# Altium footprint library SP3003-02XTG.PcbLib: 3 footprints
Each footprint in its own frame and in the unit in brackets; x right, y up, seen from the top. Pads: shape width x height; smd on the part's side, far side on the other; paste and mask are expansions set on the pad; w line width, h text height; cw(c..) or ccw(c..) is an arc to the next point about the centre after c.
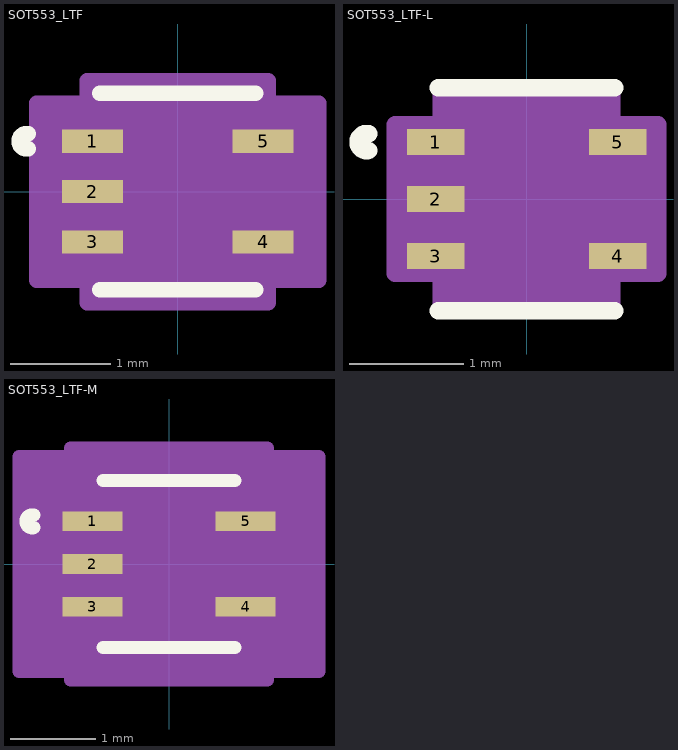
[diagram p0: the footprints below, top view; thin cyan lines are the x and y axes]

## SOT553_LTF [mm]
pads (5):
  rect 0.605x0.229 smd paste+0 mask+0: 1(-0.848,0.5) 2(-0.848,0) 3(-0.848,-0.5) 4(0.848,-0.5) 5(0.848,0.5)
Top Overlay:
  lines w0.152: -1.484,0.426 cw(c-1.503,0.5) -1.484,0.574 ; -0.775,-0.978 0.775,-0.978 ; -0.775,0.978 0.775,0.978
Mechanical 13:
  circle w0: c-0.546,0.5 r0.076
  lines w0: -0.305,0.851 ccw(c0,0.851) 0.305,0.851
  lines w0.025: -0.648,-0.851 0.648,-0.851 0.648,0.851 -0.648,0.851 -0.648,-0.851
Mechanical 15:
  region: 0.902,-1.105 -0.902,-1.105 -0.902,-0.881 -1.405,-0.881 -1.405,0.881 -0.902,0.881 -0.902,1.105 0.902,1.105 0.902,0.881 1.405,0.881 1.405,-0.881 0.902,-0.881
  lines w0.152: -1.405,-0.881 -0.902,-0.881 -0.902,-1.105 0.902,-1.105 0.902,-0.881 1.405,-0.881 1.405,0.881 0.902,0.881 0.902,1.105 -0.902,1.105 -0.902,0.881 -1.405,0.881 -1.405,-0.881
3D body "SOT553_LTF.step": height 0.61, standoff 0, extent -0.851,-0.851 0.851,0.851

## SOT553_LTF-L [mm]
pads (5):
  rect 0.505x0.229 smd paste+0 mask+0: 1(-0.798,0.5) 2(-0.798,0) 3(-0.798,-0.5) 4(0.798,-0.5) 5(0.798,0.5)
Top Overlay:
  lines w0.152: -1.384,0.426 cw(c-1.403,0.5) -1.384,0.574 ; -0.775,-0.978 0.775,-0.978 ; -0.775,0.978 0.775,0.978
Mechanical 13:
  circle w0: c-0.546,0.5 r0.076
  lines w0: -0.305,0.851 ccw(c0,0.851) 0.305,0.851
  lines w0.025: -0.648,-0.851 0.648,-0.851 0.648,0.851 -0.648,0.851 -0.648,-0.851
Mechanical 15:
  region: 0.749,-0.953 -0.749,-0.953 -0.749,-0.653 -1.152,-0.653 -1.152,0.653 -0.749,0.653 -0.749,0.953 0.749,0.953 0.749,0.652 1.152,0.652 1.152,-0.652 0.749,-0.652
  lines w0.152: -1.152,-0.653 -0.749,-0.653 -0.749,-0.953 0.749,-0.953 0.749,-0.652 1.152,-0.652 1.152,0.652 0.749,0.652 0.749,0.953 -0.749,0.953 -0.749,0.653 -1.152,0.653 -1.152,-0.653
3D body "SOT553_LTF.step": height 0.61, standoff 0, extent -0.851,-0.851 0.851,0.851

## SOT553_LTF-M [mm]
pads (5):
  rect 0.705x0.229 smd paste+0 mask+0: 1(-0.898,0.5) 2(-0.898,0) 3(-0.898,-0.5) 4(0.898,-0.5) 5(0.898,0.5)
Top Overlay:
  lines w0.152: -1.584,0.426 cw(c-1.603,0.5) -1.584,0.574 ; -0.775,-0.978 0.775,-0.978 ; -0.775,0.978 0.775,0.978
Mechanical 13:
  circle w0: c-0.546,0.5 r0.076
  lines w0: -0.305,0.851 ccw(c0,0.851) 0.305,0.851
  lines w0.025: -0.648,-0.851 0.648,-0.851 0.648,0.851 -0.648,0.851 -0.648,-0.851
Mechanical 15:
  region: 1.156,-1.359 -1.156,-1.359 -1.156,-1.262 -1.759,-1.262 -1.759,1.262 -1.156,1.262 -1.156,1.359 1.156,1.359 1.156,1.262 1.759,1.262 1.759,-1.262 1.156,-1.262
  lines w0.152: -1.759,-1.262 -1.156,-1.262 -1.156,-1.359 1.156,-1.359 1.156,-1.262 1.759,-1.262 1.759,1.262 1.156,1.262 1.156,1.359 -1.156,1.359 -1.156,1.262 -1.759,1.262 -1.759,-1.262
3D body "SOT553_LTF.step": height 0.61, standoff 0, extent -0.851,-0.851 0.851,0.851